# Altium footprint library ATA6560-GAQW-N.PcbLib: 3 footprints
Each footprint in its own frame and in the unit in brackets; x right, y up, seen from the top. Pads: shape width x height; smd on the part's side, far side on the other; paste and mask are expansions set on the pad; w line width, h text height; cw(c..) or ccw(c..) is an arc to the next point about the centre after c.
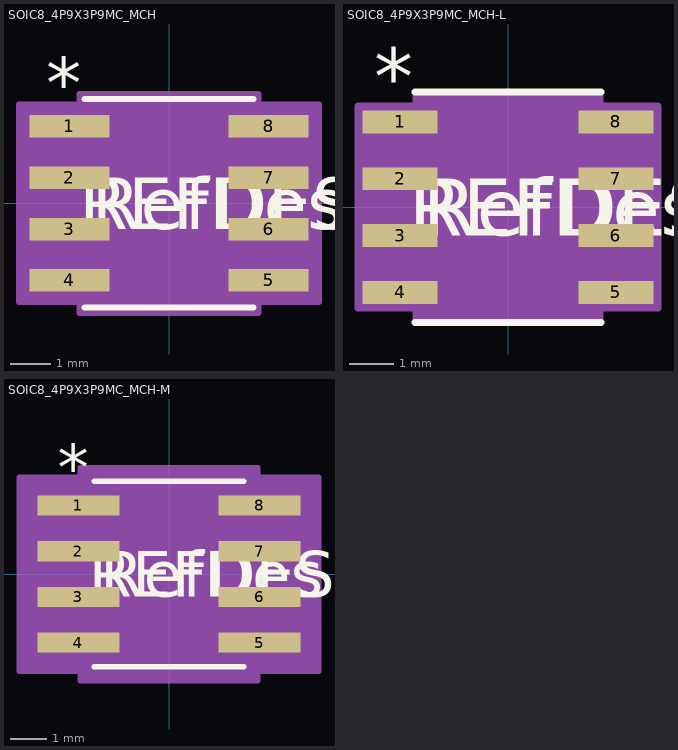
[diagram p0: the footprints below, top view; thin cyan lines are the x and y axes]

## SOIC8_4P9X3P9MC_MCH [mil]
pads (8):
  rect 78x22 smd paste+0 mask+0: 1(-97,75) 2(-97,25) 3(-97,-25) 4(-97,-75) 5(97,-75) 6(97,-25) 7(97,25) 8(97,75)
Top Overlay:
  lines w6: -82,-101.5 82,-101.5 ; -82,101.5 82,101.5
  text "REFDES" at -87.5,-25 h50
  text "*" at -119.5,92 h50
  text "RefDes" at -75,-25 h50
Mechanical 13:
  lines w0: -12,96.5 ccw(c0,96.5) 12,96.5
  lines w1: -122,-85 -122,-65 -77,-65 -77,-85 -122,-85 ; -122,-35 -122,-15 -77,-15 -77,-35 -122,-35 ; -122,15 -122,35 -77,35 -77,15 -122,15 ; -122,65 -122,85 -77,85 -77,65 -122,65 ; -77,-96.5 77,-96.5 77,96.5 -77,96.5 -77,-96.5 ; 77,-85 77,-65 122,-65 122,-85 77,-85 ; 77,-35 77,-15 122,-15 122,-35 77,-35 ; 77,15 77,35 122,35 122,15 77,15 ; 77,65 77,85 122,85 122,65 77,65
  text "*" at -74.5,43.5 h50
  text "RefDes2" at -87.5,-25 h50
Mechanical 15:
  region: -87,-96 -146,-96 -146,96 -87,96 -87,106.5 87,106.5 87,96 146,96 146,-96 87,-96 87,-106.5 -87,-106.5
  lines w6: -146,-96 -146,96 -87,96 -87,106.5 87,106.5 87,96 146,96 146,-96 87,-96 87,-106.5 -87,-106.5 -87,-96 -146,-96
3D body "SOIC8_4P9X3P9MC_MCH.step": height 69.02, standoff 0, extent -122.01,-96.5 122.01,96.5

## SOIC8_4P9X3P9MC_MCH-L [mil]
pads (8):
  rect 66x20 smd paste+0 mask+0: 1(-95,75) 2(-95,25) 3(-95,-25) 4(-95,-75) 5(95,-75) 6(95,-25) 7(95,25) 8(95,75)
Top Overlay:
  lines w6: -82,-101.5 82,-101.5 ; -82,101.5 82,101.5
  text "REFDES" at -87.5,-25 h50
  text "*" at -117.5,90 h50
  text "RefDes" at -75,-25 h50
Mechanical 13:
  lines w0: -12,96.5 ccw(c0,96.5) 12,96.5
  lines w1: -122,-85 -122,-65 -77,-65 -77,-85 -122,-85 ; -122,-35 -122,-15 -77,-15 -77,-35 -122,-35 ; -122,15 -122,35 -77,35 -77,15 -122,15 ; -122,65 -122,85 -77,85 -77,65 -122,65 ; -77,-96.5 77,-96.5 77,96.5 -77,96.5 -77,-96.5 ; 77,-85 77,-65 122,-65 122,-85 77,-85 ; 77,-35 77,-15 122,-15 122,-35 77,-35 ; 77,15 77,35 122,35 122,15 77,15 ; 77,65 77,85 122,85 122,65 77,65
  text "*" at -74.5,43.5 h50
  text "RefDes2" at -87.5,-25 h50
Mechanical 15:
  region: -81,-89 -132,-89 -132,89 -81,89 -81,100.5 81,100.5 81,89 132,89 132,-89 81,-89 81,-100.5 -81,-100.5
  lines w6: -132,-89 -132,89 -81,89 -81,100.5 81,100.5 81,89 132,89 132,-89 81,-89 81,-100.5 -81,-100.5 -81,-89 -132,-89
3D body "SOIC8_4P9X3P9MC_MCH.step": height 69.02, standoff 0, extent -122.01,-96.5 122.01,96.5

## SOIC8_4P9X3P9MC_MCH-M [mil]
pads (8):
  rect 90x22 smd paste+0 mask+0: 1(-99,75) 2(-99,25) 3(-99,-25) 4(-99,-75) 5(99,-75) 6(99,-25) 7(99,25) 8(99,75)
Top Overlay:
  lines w6: -82,-101.5 82,-101.5 ; -82,101.5 82,101.5
  text "REFDES" at -87.5,-25 h50
  text "*" at -121.5,92 h50
  text "RefDes" at -75,-25 h50
Mechanical 13:
  lines w0: -12,96.5 ccw(c0,96.5) 12,96.5
  lines w1: -122,-85 -122,-65 -77,-65 -77,-85 -122,-85 ; -122,-35 -122,-15 -77,-15 -77,-35 -122,-35 ; -122,15 -122,35 -77,35 -77,15 -122,15 ; -122,65 -122,85 -77,85 -77,65 -122,65 ; -77,-96.5 77,-96.5 77,96.5 -77,96.5 -77,-96.5 ; 77,-85 77,-65 122,-65 122,-85 77,-85 ; 77,-35 77,-15 122,-15 122,-35 77,-35 ; 77,15 77,35 122,35 122,15 77,15 ; 77,65 77,85 122,85 122,65 77,65
  text "*" at -74.5,43.5 h50
  text "RefDes2" at -87.5,-25 h50
Mechanical 15:
  region: -97,-106 -164,-106 -164,106 -97,106 -97,116.5 97,116.5 97,106 164,106 164,-106 97,-106 97,-116.5 -97,-116.5
  lines w6: -164,-106 -164,106 -97,106 -97,116.5 97,116.5 97,106 164,106 164,-106 97,-106 97,-116.5 -97,-116.5 -97,-106 -164,-106
3D body "SOIC8_4P9X3P9MC_MCH.step": height 69.02, standoff 0, extent -122.01,-96.5 122.01,96.5